# Altium footprint library PCB - LEADLESS - DFN - ANALOG DFN-12 DE UE 05-08-1695 Rev D.PcbLib: 1 footprints
Each footprint in its own frame and in the unit in brackets; x right, y up, seen from the top. Pads: shape width x height; smd on the part's side, far side on the other; paste and mask are expansions set on the pad; w line width, h text height; cw(c..) or ccw(c..) is an arc to the next point about the centre after c.
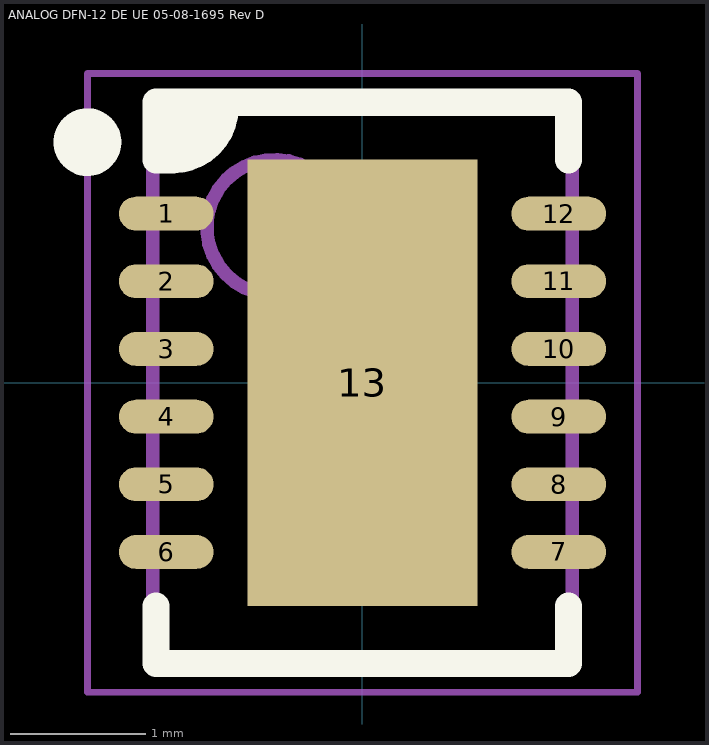
[diagram p0: the footprint, top view; thin cyan lines are the x and y axes]

## ANALOG DFN-12 DE UE 05-08-1695 Rev D [mm] "DFN, 12-Leads, Body 3.00x4.00mm, Pitch 0.50mm, Thermal Pad 1.70x3.30mm, IPC Medium Density"
height 0.8
pads (13):
  oval 0.7x0.25 smd: 1(-1.45,1.25) 2(-1.45,0.75) 3(-1.45,0.25) 4(-1.45,-0.25) 5(-1.45,-0.75) 6(-1.45,-1.25) 7(1.45,-1.25) 8(1.45,-0.75) 9(1.45,-0.25) 10(1.45,0.25) 11(1.45,0.75) 12(1.45,1.25)
  rect 1.7x3.3 smd: 13(0,0)
Top Overlay:
  circle w0.25: c-2.032,1.778 r0.125
  region: -1.524,2.073 -1.483,2.032 -1.016,2.032 -1.016,1.778 -1.146,1.648 -1.524,1.648
  lines w0.2: -1.524,-1.648 -1.524,-2.073 1.524,-2.073 1.524,-1.648 ; -1.016,2.032 cw(c-1.4,2.032) -1.4,1.648 -1.524,1.648 -1.524,2.073 1.524,2.073 1.524,1.648
Top Assembly:
  circle w0.1: c-0.65,1.15 r0.5
  lines w0.1: -1.55,-2.05 -1.55,2.05 1.55,2.05 1.55,-2.05 -1.55,-2.05
Top Courtyard:
  lines w0.05: -2.032,-2.286 -2.032,2.286 2.032,2.286 2.032,-2.286 -2.032,-2.286
  lines w0.1: -0.5,0 0.5,0 ; 0,-0.5 0,0.5
3D body "ANALOG DFN-12 DE UE 05-08-1695 Rev D.step": height 0.8, standoff 0, extent -1.551,-2.05 1.551,2.05